# Altium schematic symbol library LCSC.SchLib: 1 symbol
Pins are listed as number, name and electrical type; pins without a type are passive.

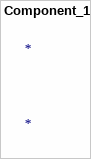
[diagram p0: symbol Component_1]

## Component_1
designator *
footprint VS-30WQ06FN-M3-ND